# Altium footprint library 数码管.PcbLib: 57 footprints (part 2 of 4)
Each footprint in its own frame and in the unit in brackets; x right, y up, seen from the top. Pads: shape width x height; smd on the part's side, far side on the other; paste and mask are expansions set on the pad; w line width, h text height; cw(c..) or ccw(c..) is an arc to the next point about the centre after c.
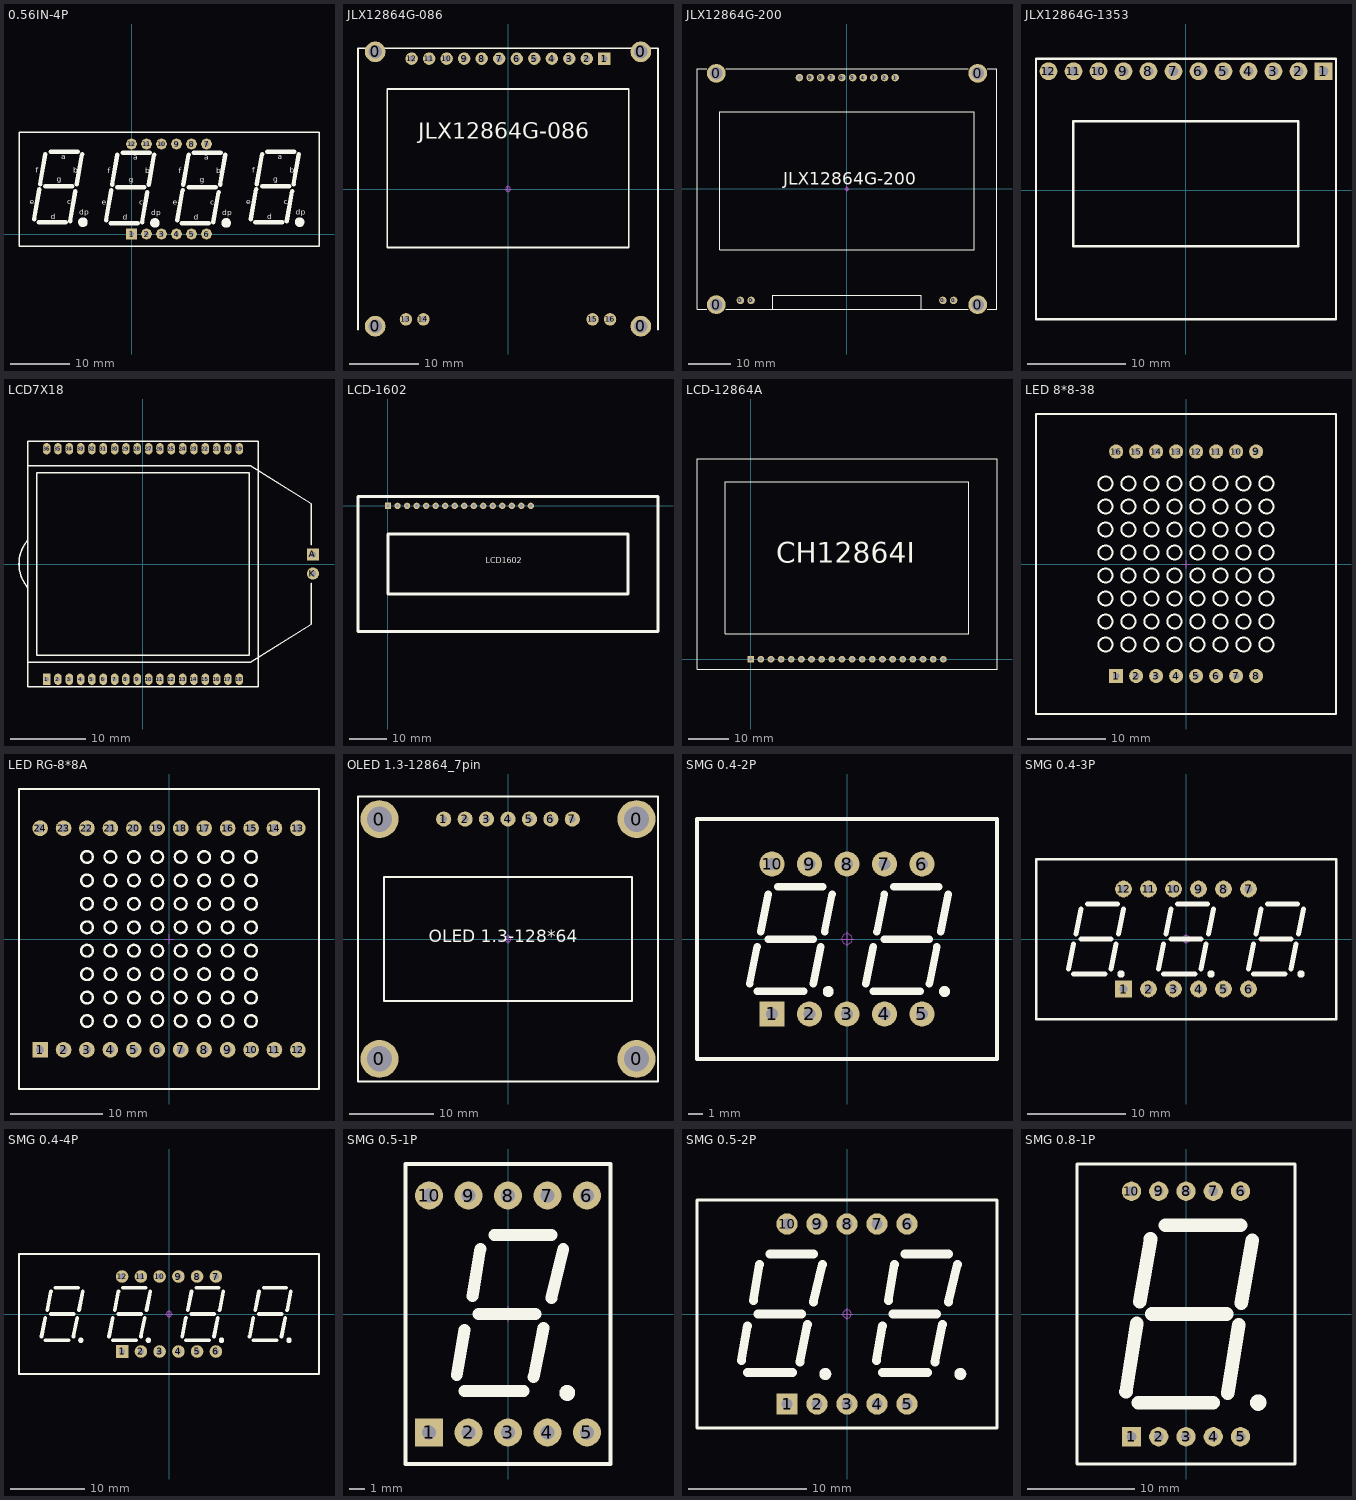
[diagram p1: the footprints below, top view; thin cyan lines are the x and y axes]

## 0.56IN-4P [mm]
pads (12):
  rect 1.8x1.8 hole 0.9: 1(0,0)
  round 1.8 hole 0.9: 2(2.54,0) 3(5.08,0) 4(7.62,0) 5(10.16,0) 6(12.7,0) 7(12.7,15.24) 8(10.16,15.24) 9(7.62,15.24) 10(5.08,15.24) 11(2.54,15.24) 12(0,15.24)
Top Overlay:
  circle w1.016: c28.473,2.007 r0.305
  circle w1.016: c-8.23,2.007 r0.305
  circle w1.016: c3.962,1.88 r0.305
  circle w1.016: c16.027,1.88 r0.305
  lines w0.254: -19.05,-2.032 -19.05,17.272 31.75,17.272 31.75,-2.032 -19.05,-2.032
  lines w0.762: -16.51,2.489 -15.621,7.569 ; -15.748,1.981 -11.176,1.981 ; -15.494,8.458 -14.605,13.538 ; -14.605,8.077 -10.033,8.077 ; -13.716,13.919 -9.144,13.919 ; -10.414,2.159 -9.525,7.239 ; -9.271,8.458 -8.382,13.538 ; -4.318,2.362 -3.429,7.442 ; -3.556,1.854 1.016,1.854 ; -3.302,8.331 -2.413,13.411 ; -2.413,7.95 2.159,7.95 ; -1.524,13.792 3.048,13.792 ; 1.778,2.032 2.667,7.112 ; 2.921,8.331 3.81,13.411 ; 7.747,2.362 8.636,7.442 ; 8.509,1.854 13.081,1.854 ; 8.763,8.331 9.652,13.411 ; 9.652,7.95 14.224,7.95 ; 10.541,13.792 15.113,13.792 ; 13.843,2.032 14.732,7.112 ; 14.986,8.331 15.875,13.411 ; 20.193,2.489 21.082,7.569 ; 20.955,1.981 25.527,1.981 ; 21.209,8.458 22.098,13.538 ; 22.098,8.077 26.67,8.077 ; 22.987,13.919 27.559,13.919 ; 26.289,2.159 27.178,7.239 ; 27.432,8.458 28.321,13.538
  text "c" at 25.781,5.08 h0.9
  text "dp" at 27.813,3.302 h0.9
  text "e" at 19.431,5.08 h0.9
  text "d" at 22.987,2.54 h0.9
  text "a" at 24.765,12.7 h0.9
  text "g" at 24.003,8.89 h0.9
  text "b" at 26.797,10.414 h0.9
  text "f" at 20.447,10.414 h0.9
  text "f" at -16.256,10.414 h0.9
  text "b" at -9.906,10.414 h0.9
  text "g" at -12.7,8.89 h0.9
  text "a" at -11.938,12.7 h0.9
  text "d" at -13.716,2.54 h0.9
  text "e" at -17.272,5.08 h0.9
  text "dp" at -8.89,3.302 h0.9
  text "c" at -10.922,5.08 h0.9
  text "f" at -4.064,10.287 h0.9
  text "b" at 2.286,10.287 h0.9
  text "g" at -0.508,8.763 h0.9
  text "a" at 0.254,12.573 h0.9
  text "d" at -1.524,2.413 h0.9
  text "e" at -5.08,4.953 h0.9
  text "dp" at 3.302,3.175 h0.9
  text "c" at 1.27,4.953 h0.9
  text "f" at 8.001,10.287 h0.9
  text "b" at 14.351,10.287 h0.9
  text "g" at 11.557,8.763 h0.9
  text "a" at 12.319,12.573 h0.9
  text "d" at 10.541,2.413 h0.9
  text "e" at 6.985,4.953 h0.9
  text "dp" at 15.367,3.175 h0.9
  text "c" at 13.335,4.953 h0.9
3D body "0.56IN-4P.STEP": height 8, standoff -3.6, extent -18.8,-1.855 31.5,17.145

## JLX12864G-086 [mm] "长：43.5mm，宽：40.8mm，高：4.5mm"
pads (20):
  round 3 hole 2: 0(-19.25,-19.9) 0(-19.25,19.9) 0(19.25,-19.9) 0(19.25,19.9)
  rect 1.8x1.8 hole 0.9: 1(13.97,18.9)
  round 1.8 hole 0.9: 2(11.43,18.9) 3(8.89,18.9) 4(6.35,18.9) 5(3.81,18.9) 6(1.27,18.9) 7(-1.27,18.9) 8(-3.81,18.9) 9(-6.35,18.9) 10(-8.89,18.9) 11(-11.43,18.9) 12(-13.97,18.9) 13(-14.8,-18.9) 14(-12.26,-18.9) 15(12.26,-18.9) 16(14.8,-18.9)
Top Overlay:
  lines w0.254: -21.75,-20.4 -21.75,20.4 21.75,20.4 21.75,-20.4 ; -17.5,-8.5 17.5,-8.5 17.5,14.5 -17.5,14.5 -17.5,-8.5
  text "JLX12864G-086" at -13,6.5 h4
Mechanical 15:
  circle w0.05: c0,0 r0.35
  lines w0.05: -0.5,0 0.5,0 ; 0,-0.5 0,0.5
3D body "JLX12864G-086.STEP": height 7.09, standoff -5.88, extent -21.75,-20.401 21.75,20.401

## JLX12864G-200 [mm] "长：71.4mm，宽：57.2mm，高：9.4mm"
pads (18):
  round 4.5 hole 3: 0(-31.2,-27.6) 0(-31.2,27.6) 0(31.2,-27.6) 0(31.2,27.6)
  round 1.8 hole 0.9: 0(-25.44,-26.6) 0(-22.9,-26.6) 0(22.9,-26.6) 0(25.44,-26.6) 1(11.5,26.6) 2(8.96,26.6) 3(6.42,26.6) 4(3.88,26.6) 5(1.34,26.6) 6(-1.2,26.6) 7(-3.74,26.6) 8(-6.28,26.6) 9(-8.82,26.6) 10(-11.36,26.6)
Top Overlay:
  lines w0.2: -33.528,-28.702 -35.814,-28.702 -35.814,28.702 -33.528,28.702 ; -28.956,-28.702 28.956,-28.702 ; -28.956,28.702 28.956,28.702 ; -17.78,-28.702 -17.78,-25.4 17.78,-25.4 17.78,-28.702 ; 33.528,-28.702 35.814,-28.702 35.814,28.702 33.528,28.702 ; -30.39,-14.53 30.39,-14.53 30.39,18.43 -30.39,18.43 -30.39,-14.53
  text "JLX12864G-200" at -15.24,0 h5.08
Mechanical 15:
  circle w0.05: c0,0 r0.35
  lines w0.05: -0.5,0 0.5,0 ; 0,-0.5 0,0.5
3D body "JLX12864G-200.STEP": height 9.4, standoff -6.02, extent -35.7,-28.6 35.7,28.6

## JLX12864G-1353 [mm] "29.9mm*26.17mm"
pads (12):
  rect 1.8x1.8 hole 1: 1(13.97,12.1)
  round 1.8 hole 1: 2(11.43,12.1) 3(8.89,12.1) 4(6.35,12.1) 5(3.81,12.1) 6(1.27,12.1) 7(-1.27,12.1) 8(-3.81,12.1) 9(-6.35,12.1) 10(-8.89,12.1) 11(-11.43,12.1) 12(-13.97,12.1)
Top Overlay:
  lines w0.254: -15.24,-13.1 -15.24,13.37 15.24,13.37 ; -15.24,-13.1 -15.24,-13.1 ; -15.24,-13.1 15.24,-13.1 15.24,13.37 ; 15.24,13.37 15.24,13.37 ; -11.43,-5.68 11.43,-5.68 11.43,7.02 -11.43,7.02 -11.43,-5.68
3D body "JLX12864G-1353.STEP": height 7.1, standoff -5.97, extent -15.24,-13.1 15.24,13.37

## LCD7X18 [mm] "定制型带背光液晶屏"
pads (38):
  rect 1x1.5 hole 0.6: 1(-12.75,-15.25)
  oval 1x1.5 hole 0.6: 2(-11.25,-15.25) 3(-9.75,-15.25) 4(-8.25,-15.25) 5(-6.75,-15.25) 6(-5.25,-15.25) 7(-3.75,-15.25) 8(-2.25,-15.25) 9(-0.75,-15.25) 10(0.75,-15.25) 11(2.25,-15.25) 12(3.75,-15.25) 13(5.25,-15.25) 14(6.75,-15.25) 15(8.25,-15.25) 16(9.75,-15.25) 17(11.25,-15.25) 18(12.75,-15.25) 19(12.75,15.25) 20(11.25,15.25) 21(9.75,15.25) 22(8.25,15.25) 23(6.75,15.25) 24(5.25,15.25) 25(3.75,15.25) 26(2.25,15.25) 27(0.75,15.25) 28(-0.75,15.25) 29(-2.25,15.25) 30(-3.75,15.25) 31(-5.25,15.25) 32(-6.75,15.25) 33(-8.25,15.25) 34(-9.75,15.25) 35(-11.25,15.25) 36(-12.75,15.25)
  rect 1.6x1.6 hole 0.8: A(22.5,1.27)
  round 1.6 hole 0.8: K(22.5,-1.27)
Top Overlay:
  lines w0.203: -15.25,-13 14.25,-13 22.25,-8 22.25,-2.54 ; -15.25,13 14.25,13 22.25,8 22.25,2.54 ; -15.25,3.137 ccw(c-11.574,0) -15.231,-3.159 ; -15.25,-16.25 -15.25,16.25 15.25,16.25 15.25,-16.25 -15.25,-16.25 ; -14.05,-12.05 -14.05,12.05 14.05,12.05 14.05,-12.05 -14.05,-12.05

## LCD-1602 [mm] "LCD module 16*2 char"
pads (16):
  rect 1.7x1.7 hole 0.9: 1(0,0)
  round 1.7 hole 0.9: 2(2.54,0) 3(5.08,0) 4(7.62,0) 5(10.16,0) 6(12.7,0) 7(15.24,0) 8(17.78,0) 9(20.32,0) 10(22.86,0) 11(25.4,0) 12(27.94,0) 13(30.48,0) 14(33.02,0) 15(35.56,0) 16(38.1,0)
Top Overlay:
  lines w0.762: -8,-33.5 -8,2.5 72,2.5 72,-33.5 -8,-33.5 ; 0,-23.5 0,-7.5 64,-7.5 64,-23.5 0,-23.5
  text "LCD1602" at 26.036,-15.28 h1.52
3D body "1602LCD.STEP": height 9, standoff -3.7, extent -8.147,-33.11 71.853,1.89

## LCD-12864A [mm] "CH12864I 显示屏，规格：75*52.7mm"
pads (20):
  rect 1.7x1.7 hole 0.9: 1(0,0)
  round 1.7 hole 0.9: 2(2.54,0) 3(5.08,0) 4(7.62,0) 5(10.16,0) 6(12.7,0) 7(15.24,0) 8(17.78,0) 9(20.32,0) 10(22.86,0) 11(25.4,0) 12(27.94,0) 13(30.48,0) 14(33.02,0) 15(35.56,0) 16(38.1,0) 17(40.64,0) 18(43.18,0) 19(45.72,0) 20(48.26,0)
Top Overlay:
  lines w0.254: -13.462,-2.54 61.722,-2.54 61.722,50.292 -13.462,50.292 -13.462,-2.54 ; -6.35,6.35 54.61,6.35 54.61,44.45 -6.35,44.45 -6.35,6.35
  text "CH12864I" at 6.35,24.13 h5.08
3D body "HDR1x20.STEP": height 8.54, standoff -3, extent -1.27,-1.27 49.53,1.27
3D body "LCD 128x64.STEP": height 7.93, standoff -0.57, extent -13.345,-2.489 61.655,50.211

## LED 8*8-38 [mm] "单色8*8点阵，38mm*38mm"
pads (16):
  rect 1.8x1.8 hole 0.8: 1(-8.874,-14.224)
  round 1.8 hole 0.8: 2(-6.334,-14.224) 3(-3.794,-14.224) 4(-1.254,-14.224) 5(1.286,-14.224) 6(3.826,-14.224) 7(6.366,-14.224) 8(8.906,-14.224) 9(8.906,14.276) 10(6.366,14.276) 11(3.826,14.276) 12(1.286,14.276) 13(-1.254,14.276) 14(-3.794,14.276) 15(-6.334,14.276) 16(-8.874,14.276)
Top Overlay:
  circle w0.254: c10.223,-10.223 r0.889
  circle w0.254: c10.223,-7.302 r0.889
  circle w0.254: c10.223,-4.381 r0.889
  circle w0.254: c7.302,-4.381 r0.889
  circle w0.254: c7.302,-7.302 r0.889
  circle w0.254: c7.302,-10.223 r0.889
  circle w0.254: c4.381,-10.223 r0.889
  circle w0.254: c4.381,-7.302 r0.889
  circle w0.254: c4.381,-4.381 r0.889
  circle w0.254: c4.381,7.302 r0.889
  circle w0.254: c4.381,4.381 r0.889
  circle w0.254: c4.381,1.46 r0.889
  circle w0.254: c7.302,1.46 r0.889
  circle w0.254: c7.302,4.381 r0.889
  circle w0.254: c7.302,7.302 r0.889
  circle w0.254: c10.223,7.302 r0.889
  circle w0.254: c10.223,4.381 r0.889
  circle w0.254: c10.223,1.46 r0.889
  circle w0.254: c10.223,10.223 r0.889
  circle w0.254: c7.302,10.223 r0.889
  circle w0.254: c4.381,10.223 r0.889
  circle w0.254: c-1.46,-4.381 r0.889
  circle w0.254: c-1.46,-7.302 r0.889
  circle w0.254: c-1.46,-10.223 r0.889
  circle w0.254: c-4.381,-10.223 r0.889
  circle w0.254: c-4.381,-7.302 r0.889
  circle w0.254: c-4.381,-4.381 r0.889
  circle w0.254: c-7.302,-4.381 r0.889
  circle w0.254: c-7.302,-7.302 r0.889
  circle w0.254: c-7.302,-10.223 r0.889
  circle w0.254: c-10.223,-10.223 r0.889
  circle w0.254: c-10.223,-7.302 r0.889
  circle w0.254: c-10.223,-4.381 r0.889
  circle w0.254: c-10.223,1.46 r0.889
  circle w0.254: c-7.302,1.46 r0.889
  circle w0.254: c-4.381,1.46 r0.889
  circle w0.254: c-1.46,4.381 r0.889
  circle w0.254: c-4.381,4.381 r0.889
  circle w0.254: c-7.302,4.381 r0.889
  circle w0.254: c-10.223,4.381 r0.889
  circle w0.254: c-10.223,7.302 r0.889
  circle w0.254: c-7.302,7.302 r0.889
  circle w0.254: c-4.381,7.302 r0.889
  circle w0.254: c-1.46,7.302 r0.889
  circle w0.254: c-1.46,10.223 r0.889
  circle w0.254: c-4.381,10.223 r0.889
  circle w0.254: c-7.302,10.223 r0.889
  circle w0.254: c-10.223,10.223 r0.889
  circle w0.254: c-10.223,-1.46 r0.889
  circle w0.254: c-7.302,-1.46 r0.889
  circle w0.254: c-4.381,-1.46 r0.889
  circle w0.254: c10.223,-1.46 r0.889
  circle w0.254: c7.302,-1.46 r0.889
  circle w0.254: c4.381,-1.46 r0.889
  circle w0.254: c1.46,-10.223 r0.889
  circle w0.254: c1.46,-7.302 r0.889
  circle w0.254: c1.46,-4.381 r0.889
  circle w0.254: c1.46,10.223 r0.889
  circle w0.254: c1.46,7.302 r0.889
  circle w0.254: c1.46,4.381 r0.889
  circle w0.254: c1.46,-1.46 r0.889
  circle w0.254: c-1.46,-1.46 r0.889
  circle w0.254: c-1.46,1.46 r0.889
  circle w0.254: c1.46,1.46 r0.889
  lines w0.254: -19.05,-19.05 19.05,-19.05 19.05,19.05 -19.05,19.05 -19.05,-19.05
Mechanical 15:
  lines w0.1: -0.508,0 0.508,0 ; 0,-0.508 0,0.508
3D body "1588BS.STEP": height 7.25, standoff -3.45, extent -19,-19 19,19

## LED RG-8*8A [mm] "双色8*8点阵,32*32mm"
pads (24):
  rect 1.7x1.7 hole 0.9: 1(-13.97,-12)
  round 1.7 hole 0.9: 2(-11.43,-12) 3(-8.89,-12) 4(-6.35,-12) 5(-3.81,-12) 6(-1.27,-12) 7(1.27,-12) 8(3.81,-12) 9(6.35,-12) 10(8.89,-12) 11(11.43,-12) 12(13.97,-12) 13(13.97,12) 14(11.43,12) 15(8.89,12) 16(6.35,12) 17(3.81,12) 18(1.27,12) 19(-1.27,12) 20(-3.81,12) 21(-6.35,12) 22(-8.89,12) 23(-11.43,12) 24(-13.97,12)
Top Overlay:
  circle w0.254: c1.27,1.27 r0.635
  circle w0.254: c-1.27,1.27 r0.635
  circle w0.254: c-1.27,-1.27 r0.635
  circle w0.254: c1.27,-1.27 r0.635
  circle w0.254: c1.27,3.81 r0.635
  circle w0.254: c1.27,6.35 r0.635
  circle w0.254: c1.27,8.89 r0.635
  circle w0.254: c1.27,-3.81 r0.635
  circle w0.254: c1.27,-6.35 r0.635
  circle w0.254: c1.27,-8.89 r0.635
  circle w0.254: c3.81,-1.27 r0.635
  circle w0.254: c6.35,-1.27 r0.635
  circle w0.254: c8.89,-1.27 r0.635
  circle w0.254: c-3.81,-1.27 r0.635
  circle w0.254: c-6.35,-1.27 r0.635
  circle w0.254: c-8.89,-1.27 r0.635
  circle w0.254: c-8.89,8.89 r0.635
  circle w0.254: c-6.35,8.89 r0.635
  circle w0.254: c-3.81,8.89 r0.635
  circle w0.254: c-1.27,8.89 r0.635
  circle w0.254: c-1.27,6.35 r0.635
  circle w0.254: c-3.81,6.35 r0.635
  circle w0.254: c-6.35,6.35 r0.635
  circle w0.254: c-8.89,6.35 r0.635
  circle w0.254: c-8.89,3.81 r0.635
  circle w0.254: c-6.35,3.81 r0.635
  circle w0.254: c-3.81,3.81 r0.635
  circle w0.254: c-1.27,3.81 r0.635
  circle w0.254: c-3.81,1.27 r0.635
  circle w0.254: c-6.35,1.27 r0.635
  circle w0.254: c-8.89,1.27 r0.635
  circle w0.254: c-8.89,-3.81 r0.635
  circle w0.254: c-8.89,-6.35 r0.635
  circle w0.254: c-8.89,-8.89 r0.635
  circle w0.254: c-6.35,-8.89 r0.635
  circle w0.254: c-6.35,-6.35 r0.635
  circle w0.254: c-6.35,-3.81 r0.635
  circle w0.254: c-3.81,-3.81 r0.635
  circle w0.254: c-3.81,-6.35 r0.635
  circle w0.254: c-3.81,-8.89 r0.635
  circle w0.254: c-1.27,-8.89 r0.635
  circle w0.254: c-1.27,-6.35 r0.635
  circle w0.254: c-1.27,-3.81 r0.635
  circle w0.254: c3.81,8.89 r0.635
  circle w0.254: c6.35,8.89 r0.635
  circle w0.254: c8.89,8.89 r0.635
  circle w0.254: c8.89,1.27 r0.635
  circle w0.254: c8.89,3.81 r0.635
  circle w0.254: c8.89,6.35 r0.635
  circle w0.254: c6.35,6.35 r0.635
  circle w0.254: c6.35,3.81 r0.635
  circle w0.254: c6.35,1.27 r0.635
  circle w0.254: c3.81,1.27 r0.635
  circle w0.254: c3.81,3.81 r0.635
  circle w0.254: c3.81,6.35 r0.635
  circle w0.254: c3.81,-3.81 r0.635
  circle w0.254: c3.81,-6.35 r0.635
  circle w0.254: c3.81,-8.89 r0.635
  circle w0.254: c6.35,-8.89 r0.635
  circle w0.254: c6.35,-6.35 r0.635
  circle w0.254: c6.35,-3.81 r0.635
  circle w0.254: c8.89,-3.81 r0.635
  circle w0.254: c8.89,-6.35 r0.635
  circle w0.254: c8.89,-8.89 r0.635
  lines w0.254: -16.256,-16.256 16.256,-16.256 16.256,16.256 -16.256,16.256 -16.256,-16.256
Mechanical 15:
  lines w0.1: -0.508,0 0.508,0 ; 0,-0.508 0,0.508
3D body "LED-Matrix.STEP": height 8, standoff -6, extent -16,-16 16,16

## OLED 1.3-12864_7pin [mm] "长：35.4mm，宽：33.5mm，"
pads (11):
  round 4.5 hole 3: 0(-15.24,-14.21) 0(-15.24,14.21) 0(15.24,-14.21) 0(15.24,14.21)
  round 1.8 hole 0.8: 1(-7.62,14.21) 2(-5.08,14.21) 3(-2.54,14.21) 4(0,14.21) 5(2.54,14.21) 6(5.08,14.21) 7(7.62,14.21)
Top Overlay:
  lines w0.2: -17.78,-16.891 17.78,-16.891 17.78,16.891 -17.78,16.891 -17.78,-16.891 ; -14.7,-7.35 -14.7,7.35 14.7,7.35 14.7,-7.35 -14.7,-7.35
  text "OLED 1.3-128*64" at -9.398,-0.889 h2.54
Mechanical 15:
  circle w0.05: c0,0 r0.35
  lines w0.05: -0.5,0 0.5,0 ; 0,-0.5 0,0.5
3D body "OLED 1.3-12864_7pin.STEP": height 5.5, standoff -6.02, extent -17.7,-16.75 17.7,16.75

## SMG 0.4-2P [mm] "20.1*16*7mm(长宽厚)"
pads (10):
  rect 1.7x1.7 hole 0.8: 1(-5.08,-5.08)
  round 1.7 hole 0.8: 2(-2.54,-5.08) 3(0,-5.08) 4(2.54,-5.08) 5(5.08,-5.08) 6(5.08,5.08) 7(2.54,5.08) 8(0,5.08) 9(-2.54,5.08) 10(-5.08,5.08)
Top Overlay:
  circle w0.381: c-1.27,-3.556 r0.18
  circle w0.381: c6.604,-3.556 r0.18
  lines w0.254: -10.16,-8.128 10.16,-8.128 10.16,8.128 -10.16,8.128 -10.16,-8.128
  lines w0.508: -6.604,-3.048 -6.096,-0.508 ; -6.096,-3.556 -2.921,-3.556 ; -5.842,0.508 -5.334,3.048 ; -4.699,3.556 -1.651,3.556 ; -2.286,-3.048 -1.778,-0.508 ; -1.524,0.508 -1.016,3.048 ; 1.27,-3.048 1.778,-0.508 ; 1.778,-3.556 4.953,-3.556 ; 2.032,0.508 2.54,3.048 ; 3.175,3.556 6.223,3.556 ; 5.588,-3.048 6.096,-0.508 ; 6.35,0.508 6.858,3.048 ; -5.334,0 -2.286,0 -5.334,0 ; 2.54,0 5.588,0 2.54,0
Mechanical 15:
  circle w0.05: c0,0 r0.35
  lines w0.05: -0.5,0 0.5,0 ; 0,-0.5 0,0.5
3D body "SMG 0.4-2P.STEP": height 7, standoff -3.6, extent -10.05,-8 10.05,8

## SMG 0.4-3P [mm] "30.1*16*7mm(长宽厚)"
pads (12):
  rect 1.7x1.7 hole 0.8: 1(-6.35,-5.08)
  round 1.7 hole 0.8: 2(-3.81,-5.08) 3(-1.27,-5.08) 4(1.27,-5.08) 5(3.81,-5.08) 6(6.35,-5.08) 7(6.35,5.08) 8(3.81,5.08) 9(1.27,5.08) 10(-1.27,5.08) 11(-3.81,5.08) 12(-6.35,5.08)
Top Overlay:
  circle w0.381: c11.684,-3.556 r0.18
  circle w0.381: c2.54,-3.556 r0.18
  circle w0.381: c-6.604,-3.556 r0.18
  lines w0.254: -15.24,-8.128 15.24,-8.128 15.24,8.128 -15.24,8.128 -15.24,-8.128
  lines w0.508: -11.938,-3.048 -11.43,-0.508 ; -11.43,-3.556 -8.255,-3.556 ; -11.176,0.508 -10.668,3.048 ; -10.668,0 -7.62,0 ; -10.033,3.556 -6.985,3.556 ; -7.62,-3.048 -7.112,-0.508 ; -6.858,0.508 -6.35,3.048 ; -2.794,-3.048 -2.286,-0.508 ; -2.286,-3.556 0.889,-3.556 ; -2.032,0.508 -1.524,3.048 ; -0.889,3.556 2.159,3.556 ; 1.524,-3.048 2.032,-0.508 ; 2.286,0.508 2.794,3.048 ; 6.35,-3.048 6.858,-0.508 ; 6.858,-3.556 10.033,-3.556 ; 7.112,0.508 7.62,3.048 ; 8.255,3.556 11.303,3.556 ; 10.668,-3.048 11.176,-0.508 ; 11.43,0.508 11.938,3.048 ; -1.524,0 1.524,0 -1.524,0 ; 7.62,0 10.668,0 7.62,0
Mechanical 15:
  circle w0.05: c0,0 r0.35
  lines w0.05: -0.5,0 0.5,0 ; 0,-0.5 0,0.5
3D body "SMG 0.4-3P.STEP": height 7, standoff -3.6, extent -15.05,-8 15.05,8

## SMG 0.4-4P [mm] "40.5*16*7mm(长宽厚)"
pads (12):
  rect 1.7x1.7 hole 0.8: 1(-6.35,-5.08)
  round 1.7 hole 0.8: 2(-3.81,-5.08) 3(-1.27,-5.08) 4(1.27,-5.08) 5(3.81,-5.08) 6(6.35,-5.08) 7(6.35,5.08) 8(3.81,5.08) 9(1.27,5.08) 10(-1.27,5.08) 11(-3.81,5.08) 12(-6.35,5.08)
Top Overlay:
  circle w0.381: c7.112,-3.556 r0.18
  circle w0.381: c16.256,-3.556 r0.18
  circle w0.381: c-11.938,-3.556 r0.18
  circle w0.381: c-2.794,-3.556 r0.18
  lines w0.254: -20.32,-8.128 20.32,-8.128 20.32,8.128 -20.32,8.128 -20.32,-8.128
  lines w0.508: -17.272,-3.048 -16.764,-0.508 ; -16.764,-3.556 -13.589,-3.556 ; -16.51,0.508 -16.002,3.048 ; -16.002,0 -12.954,0 ; -15.367,3.556 -12.319,3.556 ; -12.954,-3.048 -12.446,-0.508 ; -12.192,0.508 -11.684,3.048 ; -8.128,-3.048 -7.62,-0.508 ; -7.62,-3.556 -4.445,-3.556 ; -7.366,0.508 -6.858,3.048 ; -6.223,3.556 -3.175,3.556 ; -3.81,-3.048 -3.302,-0.508 ; -3.048,0.508 -2.54,3.048 ; 1.778,-3.048 2.286,-0.508 ; 2.286,-3.556 5.461,-3.556 ; 2.54,0.508 3.048,3.048 ; 3.048,0 6.096,0 ; 3.683,3.556 6.731,3.556 ; 6.096,-3.048 6.604,-0.508 ; 6.858,0.508 7.366,3.048 ; 10.922,-3.048 11.43,-0.508 ; 11.43,-3.556 14.605,-3.556 ; 11.684,0.508 12.192,3.048 ; 12.827,3.556 15.875,3.556 ; 15.24,-3.048 15.748,-0.508 ; 16.002,0.508 16.51,3.048 ; -6.858,0 -3.81,0 -6.858,0 ; 12.192,0 15.24,0 12.192,0
Mechanical 15:
  circle w0.05: c0,0 r0.35
  lines w0.05: -0.5,0 0.5,0 ; 0,-0.5 0,0.5
3D body "SMG 0.4-4P.STEP": height 7, standoff -3.6, extent -20.25,-8 20.25,8

## SMG 0.5-1P [mm] "12.7*19*8mm(长宽厚)"
pads (10):
  rect 1.8x1.8 hole 0.9: 1(-5.08,-7.62)
  round 1.8 hole 0.9: 2(-2.54,-7.62) 3(0,-7.62) 4(2.54,-7.62) 5(5.08,-7.62) 6(5.08,7.62) 7(2.54,7.62) 8(0,7.62) 9(-2.54,7.62) 10(-5.08,7.62)
Top Overlay:
  circle w0.508: c3.81,-5.08 r0.254
  lines w0.254: -6.604,-9.652 -6.604,9.652 6.604,9.652 6.604,-9.652 -6.604,-9.652
  lines w0.762: -3.302,-3.937 -2.794,-1.016 ; -2.794,-4.953 1.016,-4.953 ; -2.286,1.143 -1.778,4.191 ; -1.905,0 1.778,0 ; -0.889,5.08 2.794,5.08 ; 1.651,-4.064 2.286,-0.889 ; 2.794,1.016 3.556,4.191
Mechanical 15:
  circle w0.05: c0,0 r0.35
  lines w0.05: -0.5,0 0.5,0 ; 0,-0.5 0,0.5
3D body "SMG 0.5-1P.STEP": height 8, standoff -3.6, extent -6.35,-9.5 6.35,9.5

## SMG 0.5-2P [mm] "25*19*8mm(长宽厚)"
pads (10):
  rect 1.8x1.8 hole 0.9: 1(-5.08,-7.62)
  round 1.8 hole 0.9: 2(-2.54,-7.62) 3(0,-7.62) 4(2.54,-7.62) 5(5.08,-7.62) 6(5.08,7.62) 7(2.54,7.62) 8(0,7.62) 9(-2.54,7.62) 10(-5.08,7.62)
Top Overlay:
  circle w0.508: c-1.841,-5.08 r0.254
  circle w0.508: c9.588,-5.08 r0.254
  lines w0.254: -12.7,-9.652 -12.7,9.652 12.7,9.652 12.7,-9.652 -12.7,-9.652
  lines w0.762: -8.954,-3.937 -8.445,-1.016 ; -8.445,-4.953 -4.635,-4.953 ; -7.938,1.143 -7.429,4.191 ; -7.556,0 -3.873,0 ; -6.54,5.08 -2.857,5.08 ; -4,-4.064 -3.365,-0.889 ; -2.857,1.016 -2.095,4.191 ; 2.476,-3.937 2.984,-1.016 ; 2.984,-4.953 6.794,-4.953 ; 3.492,1.143 4,4.191 ; 3.873,0 7.556,0 ; 4.889,5.08 8.572,5.08 ; 7.429,-4.064 8.064,-0.889 ; 8.572,1.016 9.335,4.191
Mechanical 15:
  circle w0.05: c0,0 r0.35
  lines w0.05: -0.5,0 0.5,0 ; 0,-0.5 0,0.5
3D body "SMG 0.5-2P.STEP": height 8, standoff -3.6, extent -12.5,-9.5 12.5,9.5

## SMG 0.8-1P [mm] "20*27.7*10mm(长宽厚)"
pads (10):
  rect 1.8x1.8 hole 0.9: 1(-5.08,-11.43)
  round 1.8 hole 0.9: 2(-2.54,-11.43) 3(0,-11.43) 4(2.54,-11.43) 5(5.08,-11.43) 6(5.08,11.43) 7(2.54,11.43) 8(0,11.43) 9(-2.54,11.43) 10(-5.08,11.43)
Top Overlay:
  circle w0.762: c6.731,-8.255 r0.381
  lines w0.254: -10.16,-13.97 10.16,-13.97 10.16,13.97 -10.16,13.97 -10.16,-13.97
  lines w1.27: -5.588,-7.239 -4.572,-0.889 ; -4.445,-8.255 2.54,-8.255 ; -4.318,1.143 -3.302,6.985 ; -3.175,0 3.81,0 ; -1.905,8.255 5.08,8.255 ; 3.891,-7.366 4.907,-1.016 ; 5.161,1.016 6.177,6.858
Mechanical 15:
  circle w0.05: c0,0 r0.35
  lines w0.05: -0.5,0 0.5,0 ; 0,-0.5 0,0.5
3D body "SMG 0.8-1P.STEP": height 10, standoff -3.1, extent -10,-13.85 10,13.85